# Altium footprint library Multivibrator.PcbLib: 1 footprints
Each footprint in its own frame and in the unit in brackets; x right, y up, seen from the top. Pads: shape width x height; smd on the part's side, far side on the other; paste and mask are expansions set on the pad; w line width, h text height; cw(c..) or ccw(c..) is an arc to the next point about the centre after c.
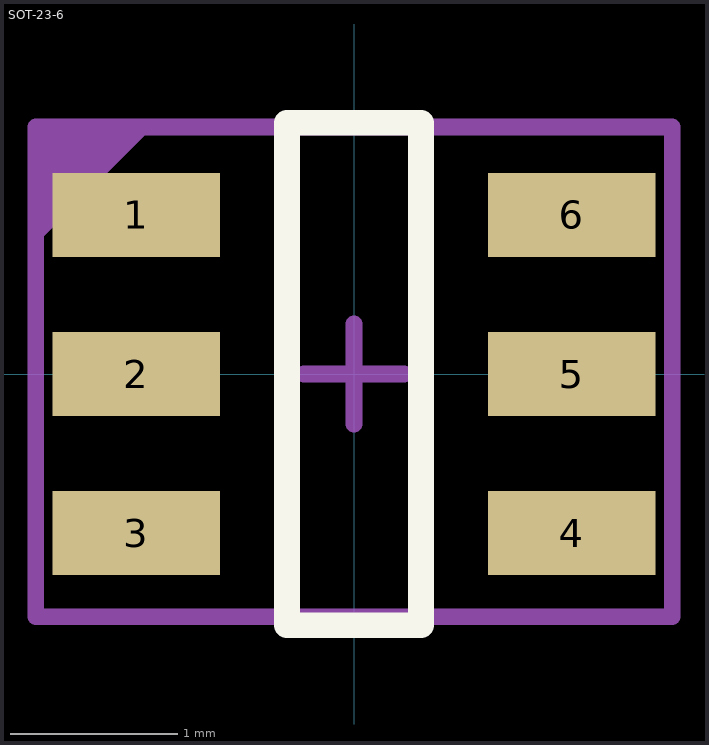
[diagram p0: the footprint, top view; thin cyan lines are the x and y axes]

## SOT-23-6 [mm]
height 1.45
pads (6):
  rect 1x0.5 smd: 1(-1.3,0.95) 2(-1.3,0) 3(-1.3,-0.95) 4(1.3,-0.95) 5(1.3,0) 6(1.3,0.95)
Top Overlay:
  lines w0.153: -0.4,-1.5 0.4,-1.5 0.4,1.5 -0.4,1.5 -0.4,-1.5
  text "." at -2.347,0.853 h0.8
Top Assembly:
  region: -1.9,1.475 -1.2,1.475 -1.9,0.775
  lines w0.1: -1.9,-1.45 -1.9,1.475 1.9,1.475 1.9,-1.45 -1.9,-1.45
  text "'.Designator'" at -4.532,-0.333 h0.8
Mechanical 15:
  lines w0.1: -0.3,0 0.3,0 ; 0,-0.3 0,0.3 ; -1.9,-1.45 -1.9,1.475 1.9,1.475 1.9,-1.45 -1.9,-1.45
3D body "User Library-SOT23-6-4.STEP": height 1.1, standoff 0, extent -1.24,-1.441 1.16,1.459